# EAGLE library part RGB_LED (library user_leds)
KPF-3236SURKMGKPBC 秋月電子通商 117060
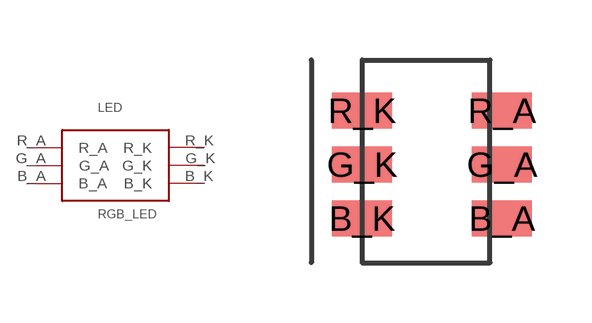
[diagram p0: symbol with the pads of RGB_LED; footprint RGB_LED]

Designator prefix LED

## RGB_LED  [RGB_LED]
B_A  B_A
B_K  B_K
G_A  G_A
G_K  G_K
R_A  R_A
R_K  R_K

## Footprint RGB_LED (pad centres in mm)
smd 1.5 x 0.9: B_A 3.5,-2.7; B_K 0,-2.7; G_A 3.5,-1.35; G_K 0,-1.35; R_A 3.5,0; R_K 0,0